# Altium schematic symbol library Schlib1.SchLib: 57 symbols (part 1 of 2)
Pins are listed as number, name and electrical type; pins without a type are passive.

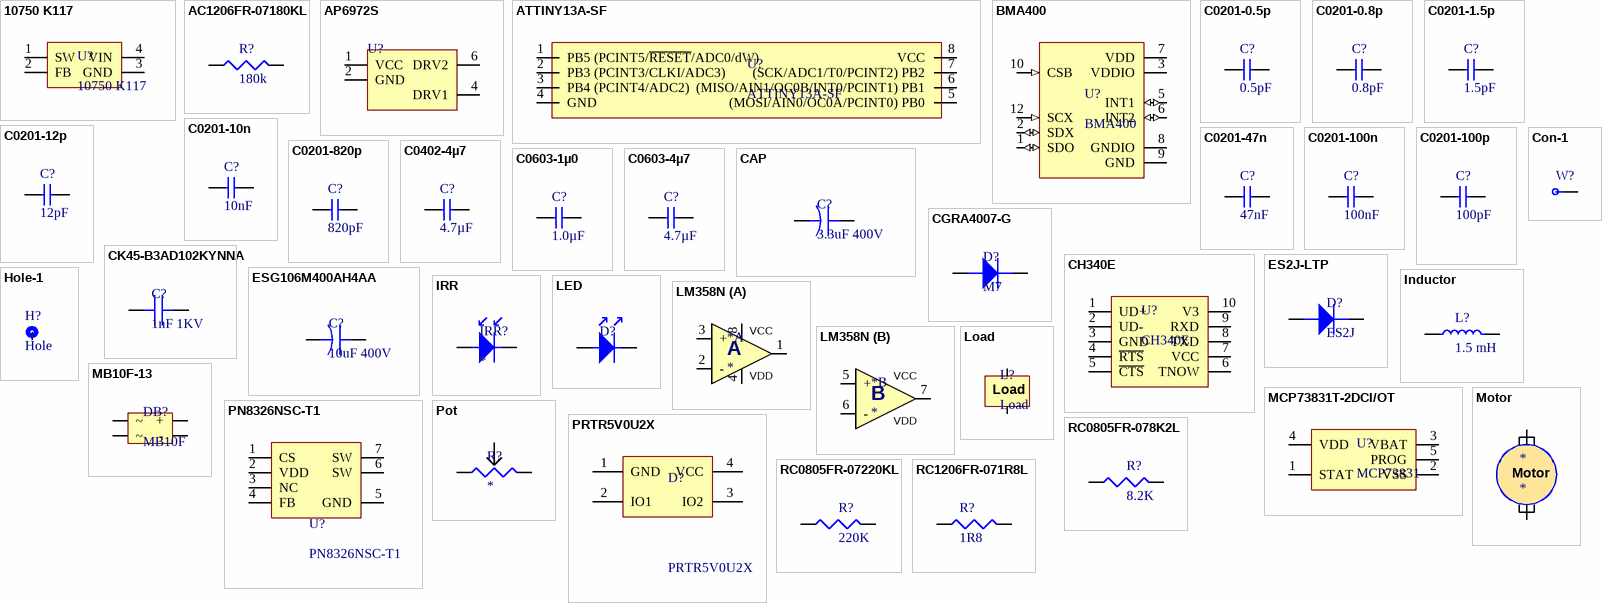
[diagram p0: symbols 10750 K117 to RC1206FR-071R8L]

## 10750 K117
designator U?
footprint 10750-K117
pins: 1 SW, 2 FB, 3 GND, 4 VIN

## AC1206FR-07180KL
designator R?, comment 180k
RES SMD 180K OHM 1% 1/4W 1206; Manufacturer: Yageo; Manufacturer Part Number: AC1206FR-07180KL; Resistance: 180kR; Max Power Dissipation: 250mW; Temperature Coefficient: 100ppm/°C; Supplier 1: Digi-Key; RoHS: Yes; Category: Chip SMD Resistors; Stock 1: 6923; Pricing 1: 1=0/10000, 10=0/08000, 100=0/03060, 1000=0/01348, 2500=0/01165 (USD); Case/Package: 1206; Case Code (Metric): 3016; Case Code (Imperial): 1206; Min Operating Temperature: -55°C; Max Operating Temperature: 155°C; Packaging: Tape and Reel; Resistor Type: Thick Film; Number of Terminations: 2; Tolerance: 1%; Features: Moisture Resistant,Automotive AEC-Q200; Length: 0.122inch; Width: 0.063inch; Height: 0.026inch; RoHS Compliant: Yes; ComponentLink1URL: http://www.yageo.com/NewPortal/yageodocoutput?fileName=/pdf/R-Chip/PYu-AC_51_RoHS_L_6.pdf&src-supplier=Digi-Key; ComponentLink1Description: http://www.yageo.com/NewPortal/yageodocoutput?fileName=/pdf/R-Chip/PYu-AC_51_RoHS_L_6.pdf&src-supplier=Digi-Key; Supplier Part Number 1: YAG3817CT-ND
footprint R-1206
pins: 1, 2

## AP6972S
designator U?
two-channel LED color temperature adjustment chip; Part Number: AP6972S; ComponentLink1Description: info; ComponentLink1URL: https://en.publicxin.com/product/56.html; ComponentLink2Description: Datasheet; ComponentLink2URL: https://en.publicxin.com/comp/file/download.do?id=39; Case/Package: SOT23-6
footprint SOT23-6_2 (AP6972S)
pins: 1 VCC, 2 GND, 4 DRV1, 6 DRV2

## ATTINY13A-SF
designator U?
MICROCONTROLLER MCU, 8 BIT, ATTINY, 20MHZ, SOIC-8; Controller Family/Series:ATtiny; CPU Speed:20MHz; Program Memory Size:1KB; RAM Memory Size:60Byte; No. of Pins:8; MCU Case Style:SOIC; No. of I/Os:6; Embedded Interface Type:- ;RoHS Compliant: Yes; Manufacturer: Microchip / Atmel; Number of I/Os: 6; Oscillator Type: Internal; Memory Type: FLASH; Memory Size: 1KB; Peripherals: Brown-out Detect/Reset,POR,PWM,WDT; Core Architecture: AVR; Interface: SPI; Number of Timers/Counters: 1; RAM Size: 64B; Max Supply Voltage: 5.5V; Min Supply Voltage: 1.8V; Data Bus Width: 8b; Number of ADC Channels: 4; Number of PWM Channels: 2; Operating Supply Voltage: 3.3V; Supplier 1: Digi-Key; Manufacturer Part Number: ATTINY13A-SF; RoHS: Yes; Category: Microcontrollers; Pricing 1: 1=0/91000, 25=0/84720, 100=0/75900 (USD); Mount: Surface Mount; Case/Package: SOIC; Number of Pins: 8; Contact Plating: Tin,Matte; Min Operating Temperature: -40°C; Max Operating Temperature: 125°C; Packaging: Rail/Tube; Frequency: 20MHz; Series: AVR® ATtiny; Package Quantity: 95; Number of Programmable I/O: 6; Max Frequency: 20MHz; Watchdog Timer: Yes; Length: 5.35mm; Width: 5.4mm; Height: 1.91mm; RoHS Compliant: Yes; ComponentLink1URL: https://datasheet.ciiva.com/3203/8126s-3203928.pdf?src-supplier=Avnet; ComponentLink1Description: https://datasheet.ciiva.com/3203/8126s-3203928.pdf?src-supplier=Avnet; ComponentLink2URL: https://datasheet.ciiva.com/1559/8126s-1559805.pdf?src-supplier=Digi-Key; ComponentLink2Description: https://datasheet.ciiva.com/1559/8126s-1559805.pdf?src-supplier=Digi-Key; Supplier Part Number 1: ATTINY13A-SF-ND
footprint SOIJ-8
pins: 1 PB5 (PCINT5/~{RESET}/ADC0/dW), 2 PB3 (PCINT3/CLKI/ADC3), 3 PB4 (PCINT4/ADC2), 4 GND, 5 (MOSI/AIN0/OC0A/PCINT0) PB0, 6 (MISO/AIN1/OC0B/INT0/PCINT1) PB1, 7 (SCK/ADC1/T0/PCINT2) PB2, 8 VCC

## BMA400
designator U?
ACCELEROMETER 2-16G 12LGA; Manufacturer: Bosch Sensortec; Axis: X, Y, Z; Supplier 1: Digi-Key; Manufacturer Part Number: BMA400; RoHS: No; Pricing 1: 1=3/98000, 5=3/70000, 10=3/07400, 25=2/56160, 50=2/27700, 100=2/16320 (USD); Mount: Surface Mount; Case/Package: LGA; Number of Pins: 12; Packaging: Tape and Reel; ComponentLink1URL: https://ae-bst.resource.bosch.com/media/_tech/media/datasheets/BST-BMA400-DS000.pdf?src-supplier=Digi-Key; ComponentLink1Description: https://ae-bst.resource.bosch.com/media/_tech/media/datasheets/BST-BMA400-DS000.pdf?src-supplier=Digi-Key; Supplier Part Number 1: 828-1081-1-ND
footprint XDCR_BMA400
pins: 1 SDO (io), 2 SDX (io), 3 VDDIO (power), 4 NC hidden, 5 INT1 (io), 6 INT2 (io), 7 VDD (power), 8 GNDIO (power), 9 GND (power), 10 CSB (in), 11 NC hidden, 12 SCX (in)

## C0201-0.5p
designator C?, comment 0.5pF
Capacitor, NP0, ±0.05pF; Part Number: C0201-0.5p; Note: 50V; Artikkelnr Noca: N.A.; Manufacturer: *; Manufacturer Part Number: *; LatestRevisionDate: 2018-10-22; Pin Count: 2; Publisher: Nordic Semiconductor; Published: 2014-11-13; Value: 0.5pF; Footprint Doc: 0201; Part number IPS: N.A.; ComponentLink1Description: Datasheet; ComponentLink1URL: *; ComponentLink2Description: Supplier link; ComponentLink2URL: *; HelpURL: *; Supplier 1: *; Supplier Part Number 1: *; Supplier 2: *; Supplier Part Number 2: *
footprint CAPC0603X03L_C
pins: 1, 2

## C0201-0.8p
designator C?, comment 0.8pF
Capacitor, NP0, ±0.05pF, 50V; Part Number: C0201-0.8p; Manufacturer: Murata; Manufacturer Part Number: GJM0335C1HR80WB01; Artikkelnr Noca: N.A.; LatestRevisionDate: 2018-10-22; Pin Count: 2; Publisher: Nordic Semiconductor; Published: 2014-11-13; Value: 0.8pF; Note: 50V; Footprint Doc: 0201; Part number IPS: N.A.; ComponentLink1Description: Datasheet; ComponentLink1URL: *; ComponentLink2Description: Supplier link; ComponentLink2URL: *; HelpURL: *; Supplier 1: *; Supplier Part Number 1: *; Supplier 2: *; Supplier Part Number 2: *
footprint CAPC0603X03L_C
pins: 1, 2

## C0201-1.5p
designator C?, comment 1.5pF
Capacitor, NP0, ±0.1pF; Part Number: C0201-1.5p; Part number IPS: 00000007107; Note: 50V; Artikkelnr Noca: N.A.; Manufacturer: *; Manufacturer Part Number: *; LatestRevisionDate: 2017-11-09; Pin Count: 2; Publisher: Nordic Semiconductor; Published: 2014-11-13; Value: 1.5pF; Footprint Doc: 0201; ComponentLink1Description: Datasheet; ComponentLink1URL: *; ComponentLink2Description: Supplier link; ComponentLink2URL: *; HelpURL: *; Supplier 1: *; Supplier Part Number 1: *; Supplier 2: *; Supplier Part Number 2: *
footprint CAPC0603X03L_C
pins: 1, 2

## C0201-10n
designator C?, comment 10nF
Capacitor, X7R, ±10%; Part Number: C0201-10n; Part number IPS: 00000003480; Note: 10V; Artikkelnr Noca: N.A.; Manufacturer: *; Manufacturer Part Number: *; LatestRevisionDate: 2017-11-09; Pin Count: 2; Publisher: Nordic Semiconductor; Published: 2014-11-13; Value: 10nF; Footprint Doc: 0201; ComponentLink1Description: Datasheet; ComponentLink1URL: *; ComponentLink2Description: Supplier link; ComponentLink2URL: *; HelpURL: *; Supplier 1: *; Supplier Part Number 1: *; Supplier 2: *; Supplier Part Number 2: *
footprint CAPC0603X03L_C
pins: 1, 2

## C0201-12p
designator C?, comment 12pF
Capacitor, NP0, ±2%; Part Number: C0201-12p; Part number IPS: 00000007848; Note: 25V; Artikkelnr Noca: N.A.; Manufacturer: *; Manufacturer Part Number: *; LatestRevisionDate: 2017-11-09; Pin Count: 2; Publisher: Nordic Semiconductor; Published: 2014-11-13; Value: 12pF; Footprint Doc: 0201; ComponentLink1Description: Datasheet; ComponentLink1URL: *; ComponentLink2Description: Supplier link; ComponentLink2URL: *; HelpURL: *; Supplier 1: *; Supplier Part Number 1: *; Supplier 2: *; Supplier Part Number 2: *
footprint CAPC0603X03L_C
pins: 1, 2

## C0201-47n
designator C?, comment 47nF
Capacitor, X5R, ±10%; Part Number: C0201-47n; Part number IPS: 00000001250; Note: 10V; Artikkelnr Noca: N.A.; LatestRevisionDate: 2017-11-09; Pin Count: 2; Publisher: Nordic Semiconductor; Published: 2014-11-13; Value: 47nF; Footprint Doc: 0201; Manufacturer: *; Manufacturer Part Number: *; ComponentLink1Description: Datasheet; ComponentLink1URL: *; ComponentLink2Description: Supplier link; ComponentLink2URL: *; HelpURL: *; Supplier 1: *; Supplier Part Number 1: *; Supplier 2: *; Supplier Part Number 2: *
footprint CAPC0603X03L_C
pins: 1, 2

## C0201-100n
designator C?, comment 100nF
Capacitor, X5R, ±10%; Part Number: C0201-100n; Part number IPS: 00000001248; Note: 16V; Artikkelnr Noca: N.A.; Manufacturer: *; Manufacturer Part Number: *; LatestRevisionDate: 2017-11-09; Pin Count: 2; Publisher: Nordic Semiconductor; Published: 2014-11-13; Value: 100nF; Footprint Doc: 0201; ComponentLink1Description: Datasheet; ComponentLink1URL: *; ComponentLink2Description: Supplier link; ComponentLink2URL: *; HelpURL: *; Supplier 1: *; Supplier Part Number 1: *; Supplier 2: *; Supplier Part Number 2: *
footprint CAPC0603X03L_C
pins: 1, 2

## C0201-100p
designator C?, comment 100pF
Capacitor, NP0, ±2%, 25V; Part Number: C0201-100p; Manufacturer: Murata; Manufacturer Part Number: GRM0335C1E101GA01; Part number IPS: 00000007853; Artikkelnr Noca: N.A.; LatestRevisionDate: 2019-04-16; Pin Count: 2; Publisher: Nordic Semiconductor; Published: 2019-04-16; Value: 100pF; Note: 25V; Footprint Doc: 0201; ComponentLink1Description: Datasheet; ComponentLink1URL: *; ComponentLink2Description: Supplier link; ComponentLink2URL: *; HelpURL: *; Supplier 1: *; Supplier Part Number 1: *; Supplier 2: *; Supplier Part Number 2: *
footprint CAPC0603X03L_C
pins: 1, 2

## C0201-820p
designator C?, comment 820pF
Capacitor, X7R, ±10%; Part Number: C0201-820p; Part number IPS: 00000001249; Note: 25V; Artikkelnr Noca: N.A.; Manufacturer: *; Manufacturer Part Number: *; LatestRevisionDate: 2017-11-09; Pin Count: 2; Publisher: Nordic Semiconductor; Published: 2014-11-13; Value: 820pF; Footprint Doc: 0201; ComponentLink1Description: Datasheet; ComponentLink1URL: *; ComponentLink2Description: Supplier link; ComponentLink2URL: *; HelpURL: *; Supplier 1: *; Supplier Part Number 1: *; Supplier 2: *; Supplier Part Number 2: *
footprint CAPC0603X03L_C
pins: 1, 2

## C0402-4µ7
designator C?, comment 4.7µF
Capacitor, X5R, ±20%; Part Number: C0402-4µ7; Part number IPS: 00000001251; Note: 10V; Artikkelnr Noca: 20039482; Manufacturer: *; Manufacturer Part Number: *; LatestRevisionDate: 2017-11-09; Pin Count: 2; Publisher: Nordic Semiconductor; Published: 2009-05-08; Value: 4.7µF; Footprint Doc: 0402; ComponentLink1Description: Datasheet; ComponentLink1URL: *; ComponentLink2Description: Supplier link; ComponentLink2URL: *; HelpURL: *; Supplier 1: Digi-Key; Supplier Part Number 1: 490-13252-1-ND; Supplier 2: *; Supplier Part Number 2: *
footprint CAPC1005X04L
pins: 1, 2

## C0603-1µ0
designator C?, comment 1.0µF
Capacitor, X7R, ±10%; Part Number: C0603-1µ0; Part number IPS: 00000000616; Note: 16V; Artikkelnr Noca: 20039282; Manufacturer: *; Manufacturer Part Number: *; LatestRevisionDate: 2013-06-05; Pin Count: 2; Publisher: Nordic Semiconductor; Published: 2009-05-08; Value: 1.0µF; Footprint Doc: 0603; ComponentLink1Description: Datasheet; ComponentLink1URL: *; ComponentLink2Description: Supplier link; ComponentLink2URL: *; HelpURL: *; Supplier 1: *; Supplier Part Number 1: *; Supplier 2: *; Supplier Part Number 2: *
footprint CAPC1608X06L
pins: 1, 2

## C0603-4µ7
designator C?, comment 4.7µF
Capacitor, X5R, ±10%; Part Number: C0603-4µ7; Part number IPS: 00000007783; Note: 6.3V; Artikkelnr Noca: 20069060; Manufacturer: *; Manufacturer Part Number: *; LatestRevisionDate: 2009-11-23; Pin Count: 2; Publisher: Nordic Semiconductor; Published: 2009-05-08; Value: 4.7µF; Footprint Doc: 0603; ComponentLink1Description: Datasheet; ComponentLink1URL: *; ComponentLink2Description: Supplier link; ComponentLink2URL: *; HelpURL: *; Supplier 1: *; Supplier Part Number 1: *; Supplier 2: *; Supplier Part Number 2: *
footprint CAPC1608X06L
pins: 1, 2

## CAP
designator C?, comment 3.3uF 400V
-40+105'C LE-20
footprint CAP-Sleep_12x6
footprint CAP-SLEEP_10X6
pins: A, K

## CGRA4007-G
designator D?, comment M7
DIODE GEN PURP 1KV 1A DO214AC; Manufacturer: Comchip; Manufacturer Part Number: CGRA4007-G; Max Reverse Current: 5uA; Polarity: Standard; Max Surge Current: 30A; Supplier 1: Digi-Key; RoHS: Yes; Category: Rectifier Diodes; Stock 1: 357790; Pricing 1: 1=0/28000, 10=0/22800, 100=0/12080, 500=0/07950, 1000=0/05406, 2000=0/04876 (USD); Mount: Surface Mount; Reverse Voltage: 1kV; Max Reverse Voltage (DC): 1kV; Average Rectified Current: 1A; Forward Current: 1A; Voltage Rating (DC): 1kV; Current Rating: 1A; Output Current: 1A; Package Quantity: 5000; Packaging: Tape and Reel; Lead Free: Lead Free; ComponentLink1URL: https://datasheet.ciiva.com/911/cgra4001-gthru-cgra4007-hfrevd-911849.pdf?src-supplier=Digi-Key; ComponentLink1Description: https://datasheet.ciiva.com/911/cgra4001-gthru-cgra4007-hfrevd-911849.pdf?src-supplier=Digi-Key; ComponentLink2URL: https://datasheet.ciiva.com/911/cgra4001-gthru-cgra4007-hfrevd-911851.pdf?src-supplier=Digi-Key; ComponentLink2Description: https://datasheet.ciiva.com/911/cgra4001-gthru-cgra4007-hfrevd-911851.pdf?src-supplier=Digi-Key; ComponentLink3URL: https://datasheet.ciiva.com/911/cgra4001-gthru-cgra4007-hfrevd-911850.pdf?src-supplier=Digi-Key; ComponentLink3Description: https://datasheet.ciiva.com/911/cgra4001-gthru-cgra4007-hfrevd-911850.pdf?src-supplier=Digi-Key; Supplier Part Number 1: 641-1018-1-ND
footprint Diode-M
pins: A, K

## CH340E
designator U?
USB to Serial; Case/Package: MSOP-10
footprint MSOP-10
pins: 1 UD+, 2 UD-, 3 GND, 4 ~{RTS}, 5 ~{CTS}, 6 TNOW, 7 VCC, 8 TXD, 9 RXD, 10 V3

## CK45-B3AD102KYNNA
designator C?, comment 1nF 1KV
Cap Ceramic 0.001uF 1000V B 10%( 6 X 5mm) Radial 5mm 105C Bulk; Manufacturer: TDK; Manufacturer Part Number: CK45-B3AD102KYNNA; Lead/Base Style: Straight; Supplier 1: Digi-Key; RoHS: Yes; Category: Ceramic Capacitors; Stock 1: 2526; Pricing 1: 1=0/35000, 10=0/24100, 50=0/16900, 100=0/14490, 500=0/10866, 1000=0/09175, 2500=0/08692, 5000=0/08209 (USD); Mount: Through Hole; Case/Package: Radial; Contact Plating: Tin; Min Operating Temperature: -25°C; Max Operating Temperature: 105°C; Package Quantity: 1000; Packaging: Bulk; Capacitance: 1nF; Tolerance: 10%; Voltage Rating: 1kV; Height - Seated (Max): 0.394inch; Lead Pitch: 0.197inch; Lead Free: Lead Free; RoHS Compliant: Yes; ComponentLink1URL: https://datasheet.ciiva.com/29540/leaddisc-commercial-ck45-en-29540152.pdf?src-supplier=Digi-Key; ComponentLink1Description: https://datasheet.ciiva.com/29540/leaddisc-commercial-ck45-en-29540152.pdf?src-supplier=Digi-Key; Supplier Part Number 1: 445-175508-ND
footprint CAP-1nF-1KV
pins: 1, 2

## Con-1
designator W?, comment Wire  (value not drawn)  (no BOM)
footprint Con-1_Dip
footprint Con-1_SMD
pins: 1

## ES2J-LTP
designator D?, comment ES2J
2A SUPER FAST RECOVERY SILICON RECTIFIER / 13 REEL ;ROHS COMPLIANT: YES; Manufacturer: MCC; Manufacturer Part Number: ES2J-LTP; Reverse Voltage (DC): 600V; Reverse Recovery Time: 35ns; Element Configuration: Single; Forward Voltage: 1.7V; Max Surge Current: 50A; Max Reverse Current: 5uA; Supplier 1: Digi-Key; RoHS: Yes; Category: Rectifier Diodes; Stock 1: 19560; Pricing 1: 1=0/45000, 10=0/33600, 100=0/20900, 500=0/14300, 1000=0/11000, 2000=0/09900 (USD); Mount: Surface Mount; Case/Package: DO-214AC; Number of Pins: 2; Weight: 0.003739oz; Min Operating Temperature: -65°C; Max Operating Temperature: 175°C; Package Quantity: 1; Packaging: Tape and Reel; Average Rectified Current: 2A; Forward Current: 2A; Recovery Time: 35ns; Max Reverse Voltage (DC): 600V; Series: -; ComponentLink1URL: https://datasheet.ciiva.com/6378/es2a-les2j-ldo-214ac-6378187.pdf?src-supplier=Digi-Key; ComponentLink1Description: https://datasheet.ciiva.com/6378/es2a-les2j-ldo-214ac-6378187.pdf?src-supplier=Digi-Key; ComponentLink2URL: https://datasheet.ciiva.com/18567/es2a-les2j-ldo-214ac-18567452.pdf?src-supplier=Digi-Key; ComponentLink2Description: https://datasheet.ciiva.com/18567/es2a-les2j-ldo-214ac-18567452.pdf?src-supplier=Digi-Key; Supplier Part Number 1: 353-ES2J-LTPCT-ND
footprint Diode-M
pins: A, K

## ESG106M400AH4AA
designator C?, comment 10uF 400V
CAP ALUM 10UF 20% 400V RADIAL; Manufacturer: KEMET; Manufacturer Part Number: ESG106M400AH4AA; Ripple Current: 100mA; Impedance: 2.9R; Life (Hours): 5000Hour; Supplier 1: Digi-Key; RoHS: Yes; Category: Aluminum Electrolytic Capacitors; Stock 1: 2246; Pricing 1: 1=0/82000, 10=0/60100, 50=0/48080, 100=0/41210, 500=0/32622, 1000=0/27471, 2500=0/25754, 5000=0/24037 (USD); Mount: Through Hole; Case/Package: Radial; Min Operating Temperature: -40°C; Max Operating Temperature: 105°C; Capacitance: 10uF; Tolerance: 20%; Termination: Radial; Package Quantity: 2400; Voltage Rating: 400V; Packaging: Bulk; Series: ESG; Diameter: 10mm; Height: 19mm; Lead Pitch: 0.197inch; Height - Seated (Max): 0.827inch; Radiation Hardening: No; RoHS Compliant: Yes; ComponentLink1URL: http://capacitoredge.kemet.com/capedge2/DataSheet?pn=ESG106M400AH4AA&src-supplier=Avnet; ComponentLink1Description: http://capacitoredge.kemet.com/capedge2/DataSheet?pn=ESG106M400AH4AA&src-supplier=Avnet; ComponentLink2URL: https://search.kemet.com/component-edge/download/datasheet/ESG106M400AH4AA.pdf?src-supplier=Digi-Key; ComponentLink2Description: https://search.kemet.com/component-edge/download/datasheet/ESG106M400AH4AA.pdf?src-supplier=Digi-Key; ComponentLink3URL: http://capacitoredge.kemet.com/capedge2/DataSheet?pn=ESG106M400AH4AA&src-supplier=Avnet+Europe; ComponentLink3Description: http://capacitoredge.kemet.com/capedge2/DataSheet?pn=ESG106M400AH4AA&src-supplier=Avnet+Europe; Supplier Part Number 1: 399-6538-ND
footprint CAP-10x20
pins: 1, 2

## Hole-1
designator H?, comment Hole  (net tie, no BOM)
footprint Hole-1
pins: 0

## Inductor
designator L?, comment 1.5 mH
ZH 152
footprint SMD-IND-ZH152
pins: 1, 2

## IRR
designator IRR?
footprint LED5MM (LED THD 5MM)
pins: A, K

## LED
designator D?  (value not drawn)
footprint LED-2835
footprint LED5MM (LED THD 5MM)
pins: A, K

## LM358N
designator *
IC OPAMP GP 1.1MHZ 8DIP; Manufacturer: STMicroelectronics; Manufacturer Part Number: LM358N; Operating Supply Voltage: 15V; Voltage Gain: 100dB; Slew Rate: 0.6V/µs; Max Supply Voltage: 30V; Min Supply Voltage: 3V; Common Mode Rejection Ratio: 70dB; Min Dual Supply Voltage: 1.5V; Nominal Supply Current: 1.2mA; Number of Channels: 2; Output Current: 40mA; Dual Supply Voltage: 9V; Max Input Voltage: 28.5V; Min Input Voltage: 0V; Input Bias Current: 150nA; Input Offset Voltage (Vos): 7mV; Operating Supply Current: 700uA; Output Current per Channel: 60mA; Amplifier Type: GENERAL PURPOSE; Supplier 1: Digi-Key; RoHS: Yes; Category: Amplifiers - Op Amps, Buffer, Instrumentation; Mount: Through Hole; Case/Package: DIP; Number of Pins: 8; Weight: 0.01lb; Min Operating Temperature: 0°C; Max Operating Temperature: 70°C; Package Quantity: 50; Packaging: Rail/Tube; Bandwidth: 1.1MHz; Unity Gain Bandwidth Product: 1.1MHz; Max Dual Supply Voltage: 15V; Number of Circuits: 2; Gain Bandwidth Product: 1.1MHz; Number of Elements: 2; Number of Amplifiers: 2; Series: -; Supply Current: 1.2mA; Technology: BIPOLAR; Input Offset Voltage-Max: 7mV; Slew Rate-Nom: 0.6V/µs; Length: 9.27mm; Width: 6.35mm; Height: 3.3mm; Radiation Hardening: No; REACH SVHC: No SVHC; Lead Free: Lead Free; RoHS Compliant: Yes; ComponentLink1URL: https://datasheet.ciiva.com/15130/getdatasheetpartid-85226-15130372.pdf?src-supplier=Verical; ComponentLink1Description: https://datasheet.ciiva.com/15130/getdatasheetpartid-85226-15130372.pdf?src-supplier=Verical; ComponentLink2URL: https://datasheet.ciiva.com/29306/155600-da-01-en-op-verst-lm358n-stm-29306824.pdf?src-supplier=Conrad; ComponentLink2Description: https://datasheet.ciiva.com/29306/155600-da-01-en-op-verst-lm358n-stm-29306824.pdf?src-supplier=Conrad; ComponentLink3URL: https://datasheet.ciiva.com/29305/174440-da-01-en-ic-lm-358-n-dip8-stm-29305885.pdf?src-supplier=Conrad; ComponentLink3Description: https://datasheet.ciiva.com/29305/174440-da-01-en-ic-lm-358-n-dip8-stm-29305885.pdf?src-supplier=Conrad; ComponentLink4URL: https://datasheet.ciiva.com/14151/jhlm258-e-14151239.pdf?src-supplier=Distrelec; ComponentLink4Description: https://datasheet.ciiva.com/14151/jhlm258-e-14151239.pdf?src-supplier=Distrelec; ComponentLink5URL: https://datasheet.ciiva.com/1796/cd00000464-1796450.pdf?src-supplier=Digi-Key; ComponentLink5Description: https://datasheet.ciiva.com/1796/cd00000464-1796450.pdf?src-supplier=Digi-Key; ComponentLink6URL: https://datasheet.ciiva.com/18404/70013564-18404010.pdf?src-supplier=Allied+Electronics; ComponentLink6Description: https://datasheet.ciiva.com/18404/70013564-18404010.pdf?src-supplier=Allied+Electronics; ComponentLink7URL: https://datasheet.ciiva.com/16351/cd00000464-16351087.pdf?src-supplier=Future+Electronics; ComponentLink7Description: https://datasheet.ciiva.com/16351/cd00000464-16351087.pdf?src-supplier=Future+Electronics; Supplier Part Number 1: 497-1592-5-ND
footprint DIP_8 (DIP, pitch 2.54mm, 300mil Width)
part A pins: 1 O1, 2 -, 3 +, 4 VDD, 8 VCC
part B pins: 5 +, 6 -, 7 O2
part A text: A
part B text: B

## Load
designator L?
footprint PWL_2 (Connector; Header; 2 Position)
pins: 1, 2

## MB10F-13
designator DB?, comment MB10F
BRIDGE RECT 1PHASE 1KV 800MA MBF; Manufacturer: Diodes; Manufacturer Part Number: MB10F-13; Supplier 1: Digi-Key; RoHS: Yes; Category: Diodes; Stock 1: 17990; Pricing 1: 1=0/43000, 10=0/35200, 100=0/23940, 500=0/17952, 1000=0/13464, 2000=0/12342 (USD); Mount: Surface Mount; Case/Package: SMD/SMT; Min Operating Temperature: -55°C; Max Operating Temperature: 150°C; Packaging: Tape and Reel; Average Rectified Current: 800mA; RoHS Compliant: Yes; ComponentLink1URL: https://www.diodes.com/assets/Datasheets/MB10F.pdf?src-supplier=Digi-Key; ComponentLink1Description: https://www.diodes.com/assets/Datasheets/MB10F.pdf?src-supplier=Digi-Key; Supplier Part Number 1: MB10F-13DICT-ND
footprint MB10F
pins: 1 +, 2 ~, 3 -, 4 ~

## MCP73831T-2DCI/OT
designator U?, comment MCP73831
MICROCHIP - MCP73831T-2DCI/OT - IC zum Laden von 1-zelligen Li-Ionen- & Li-Polymer-Akkus, 6V Eingang, 4.2V/500mA, SOT-23-5; Output Voltage: 4.2V; Output Current: 500mA; Number of Cells: 1; Min Supply Voltage: 3.75V; Operating Supply Current: 510uA; Max Output Voltage: 4.232V; Min Output Voltage: 4.168V; Supplier 1: Digi-Key; Manufacturer: Microchip; Manufacturer Part Number: MCP73831T-2DCI/OT; RoHS: Yes; Category: Battery Management; Stock 1: 3700; Pricing 1: 1=0/59000, 25=0/49400 (USD); Mount: Surface Mount; Case/Package: SOT-23; Number of Pins: 5; Contact Plating: Tin,Matte; Min Operating Temperature: -40°C; Max Operating Temperature: 85°C; Max Output Current: 500mA; Max Supply Voltage: 6V; Packaging: Tape and Reel; Package Quantity: 3000; Max Input Voltage: 3.75V; Number of Channels: 1; Max Charge Current: 500mA; Series: MCP73831; Length: 3.1mm; Width: 1.8mm; Height: 1.3mm; Radiation Hardening: No; REACH SVHC: No SVHC; Lead Free: Lead Free; RoHS Compliant: Yes; ComponentLink1URL: https://datasheet.ciiva.com/1496/1784520-1496880.pdf?src-supplier=Farnell; ComponentLink1Description: https://datasheet.ciiva.com/1496/1784520-1496880.pdf?src-supplier=Farnell; ComponentLink2URL: https://datasheet.ciiva.com/3213/21984e-3213406.pdf?src-supplier=Avnet; ComponentLink2Description: https://datasheet.ciiva.com/3213/21984e-3213406.pdf?src-supplier=Avnet; ComponentLink3URL: https://datasheet.ciiva.com/1931/21984e-1931965.pdf?src-supplier=Digi-Key; ComponentLink3Description: https://datasheet.ciiva.com/1931/21984e-1931965.pdf?src-supplier=Digi-Key; ComponentLink4URL: https://datasheet.ciiva.com/1931/21984e-1931966.pdf?src-supplier=Digi-Key; ComponentLink4Description: https://datasheet.ciiva.com/1931/21984e-1931966.pdf?src-supplier=Digi-Key; ComponentLink5URL: https://datasheet.ciiva.com/1931/21984e-1931967.pdf?src-supplier=Digi-Key; ComponentLink5Description: https://datasheet.ciiva.com/1931/21984e-1931967.pdf?src-supplier=Digi-Key; ComponentLink6URL: https://datasheet.ciiva.com/12230/21984e-53484-12230924.pdf?src-supplier=Mouser; ComponentLink6Description: https://datasheet.ciiva.com/12230/21984e-53484-12230924.pdf?src-supplier=Mouser; ComponentLink7URL: https://datasheet.ciiva.com/17299/21984e-17299308.pdf?src-supplier=Avnet+Europe; ComponentLink7Description: https://datasheet.ciiva.com/17299/21984e-17299308.pdf?src-supplier=Avnet+Europe; ComponentLink8URL: https://datasheet.ciiva.com/1137/1784520-1137805.pdf?src-supplier=Element14; ComponentLink8Description: https://datasheet.ciiva.com/1137/1784520-1137805.pdf?src-supplier=Element14; ComponentLink9URL: https://datasheet.ciiva.com/15115/getdatasheetpartid-571429-15115381.pdf?src-supplier=Verical; ComponentLink9Description: https://datasheet.ciiva.com/15115/getdatasheetpartid-571429-15115381.pdf?src-supplier=Verical; ComponentLink10URL: https://datasheet.ciiva.com/16217/filehandler-aspxddocname-en025112-16217054.pdf?src-supplier=Future+Electronics; ComponentLink10Description: https://datasheet.ciiva.com/16217/filehandler-aspxddocname-en025112-16217054.pdf?src-supplier=Future+Electronics; ComponentLink11URL: https://datasheet.ciiva.com/1490/1784520-1490198.pdf?src-supplier=Element14; ComponentLink11Description: https://datasheet.ciiva.com/1490/1784520-1490198.pdf?src-supplier=Element14; Supplier Part Number 1: MCP73831T-2DCI/OTCT-ND
footprint SOT-23-5
pins: 1 STAT, 2 VSS, 3 VBAT, 4 VDD, 5 PROG

## Motor
designator *
footprint PWL_2 (Connector; Header; 2 Position)
pins: 1, 2

## PN8326NSC-T1
designator U?
footprint PN8326NSC-T1
pins: 1 CS, 2 VDD, 3 NC, 4 FB, 5 GND, 6 SW, 7 SW

## Pot
designator R?
footprint POT_7X5 (POT, TRIM, 7.5X5.0mm, pitch: 5.0mm)
pins: 1, 2, 3

## PRTR5V0U2X
designator D?
Ultra low capacitance double rail-to-rail ESD protection diode; Manufacturer: NXP; Part number IPS: 00000009951; Artikkelnr Noca: 10069015; Part Number: PRTR5V0U2X; Manufacturer Part Number: PRTR5V0U2X; LatestRevisionDate: 2017-11-09; Publisher: Nordic Semiconductor; Published: 2012-06-11; Value: PRTR5V0U2X; Note: *; Footprint Doc: SOT-143B; ComponentLink1Description: Datasheet; ComponentLink1URL: *; ComponentLink2Description: Supplier link; ComponentLink2URL: *; HelpURL: http://www.farnell.com/datasheets/109718.pdf; Pin Count: 4; Supplier 1: Digi-Key; Supplier Part Number 1: 568-4140-1-ND; Supplier 2: Farnell; Supplier Part Number 2: 152-4157
footprint SOT190P230X110-4L
pins: 1 GND, 2 IO1, 3 IO2, 4 VCC

## RC0805FR-078K2L
designator R?, comment 8.2K
YAGEO - RC0805FR-078K2L - SMD Chip Resistor, 0805 [2012 Metric], 8.2 kohm, RC Series, 150 V, Thick Film, 125 mW; Tolerance: 1%; Power Rating: 125mW; Resistance: 8.2kR; Voltage Rating: 150V; Temperature Coefficient: 100ppm/°C; Supplier 1: Digi-Key; Manufacturer: Yageo; Manufacturer Part Number: RC0805FR-078K2L; RoHS: Yes; Category: Chip SMD Resistors; Stock 1: 764393; Pricing 1: 1=0/10000, 10=0/04200, 100=0/01690, 1000=0/00759, 2500=0/00659 (USD); Case/Package: 0805; Case Code (Metric): 2012; Case Code (Imperial): 0805; Size Code: 0805; Min Operating Temperature: -55°C; Max Operating Temperature: 155°C; Packaging: Tape and Reel; Resistor Type: Thick Film; Number of Terminations: 2; Termination: SMD/SMT; Max Power Dissipation: 125mW; Features: Moisture Resistant; Series: RC; Technology: THICK FILM; Resistance Tolerance: 1%; Package Quantity: 1; Length: 2mm; Width: 0.049inch; Height: 0.5mm; Depth: 1.25mm; REACH SVHC: Unknown; Lead Free: Lead Free; RoHS Compliant: Yes; ComponentLink1URL: https://datasheet.ciiva.com/11808/0900766b8106beab-11808608.pdf?src-supplier=RSComponents; ComponentLink1Description: https://datasheet.ciiva.com/11808/0900766b8106beab-11808608.pdf?src-supplier=RSComponents; ComponentLink2URL: https://datasheet.ciiva.com/2457/pyu-r-int-thick-7-2457428.pdf?src-supplier=Digi-Key; ComponentLink2Description: https://datasheet.ciiva.com/2457/pyu-r-int-thick-7-2457428.pdf?src-supplier=Digi-Key; ComponentLink3URL: https://datasheet.ciiva.com/2457/pyu-r-int-thick-7-2457429.pdf?src-supplier=Digi-Key; ComponentLink3Description: https://datasheet.ciiva.com/2457/pyu-r-int-thick-7-2457429.pdf?src-supplier=Digi-Key; ComponentLink4URL: https://datasheet.ciiva.com/2457/pyu-r-int-thick-7-2457430.pdf?src-supplier=Digi-Key; ComponentLink4Description: https://datasheet.ciiva.com/2457/pyu-r-int-thick-7-2457430.pdf?src-supplier=Digi-Key; ComponentLink5URL: https://datasheet.ciiva.com/17195/rc0805-17195302.pdf?src-supplier=Future+Electronics; ComponentLink5Description: https://datasheet.ciiva.com/17195/rc0805-17195302.pdf?src-supplier=Future+Electronics; ComponentLink6URL: https://datasheet.ciiva.com/7941/444164-7941847.pdf?src-supplier=Element14; ComponentLink6Description: https://datasheet.ciiva.com/7941/444164-7941847.pdf?src-supplier=Element14; ComponentLink7URL: https://datasheet.ciiva.com/7941/444164-7941848.pdf?src-supplier=Element14; ComponentLink7Description: https://datasheet.ciiva.com/7941/444164-7941848.pdf?src-supplier=Element14; Supplier Part Number 1: 311-8.20KCRCT-ND
footprint R-0805
pins: 1, 2

## RC0805FR-07220KL
designator R?, comment 220K
Thick Film Resistors - SMD 0805 220K OHM 1%; Manufacturer: Yageo; Manufacturer Part Number: RC0805FR-07220KL; Resistance: 220kR; Power Rating: 125mW; Temperature Coefficient: 100ppm/°C; Voltage Rating: 150V; Supplier 1: Digi-Key; RoHS: Yes; Category: Chip SMD Resistors; Stock 1: 82294; Pricing 1: 1=0/10000, 10=0/04200, 100=0/01690, 1000=0/00759, 2500=0/00659 (USD); Case/Package: 0805; Number of Pins: 2; Case Code (Metric): 2012; Case Code (Imperial): 0805; Size Code: 0805; Min Operating Temperature: -55°C; Max Operating Temperature: 155°C; Tolerance: 1%; Packaging: Tape and Reel; Voltage Rating (DC): 150V; Package Quantity: 1; Resistor Type: Thick Film; Number of Terminations: 2; Termination: SMD/SMT; Max Power Dissipation: 125mW; Features: Moisture Resistant; Series: RC; Resistance Tolerance: 1%; Technology: THICK FILM; Length: 2mm; Width: 1.25mm; Height: 0.5mm; Depth: 1.25mm; REACH SVHC: Unknown; Lead Free: Lead Free; RoHS Compliant: Yes; Supplier Part Number 1: 311-220KCRCT-ND
footprint R-0805
pins: 1, 2

## RC1206FR-071R8L
designator R?, comment 1R8
YAGEO - RC1206FR-071R8L - SMD Chip Resistor, 1206 [3216 Metric], 1.8 ohm, RC Series, 200 V, Thick Film, 250 mW; Tolerance: 1%; Power Rating: 250mW; Resistance: 1.8R; Voltage Rating: 200V; Temperature Coefficient: 200ppm/°C; Supplier 1: Digi-Key; Manufacturer: Yageo; Manufacturer Part Number: RC1206FR-071R8L; RoHS: Yes; Category: Chip SMD Resistors; Stock 1: 644473; Pricing 1: 1=0/15000, 10=0/13200, 100=0/05090, 1000=0/02242, 2500=0/01936 (USD); Case/Package: 1206; Case Code (Imperial): 1206; Case Code (Metric): 3216; Size Code: 1206; Weight: 0.000571oz; Min Operating Temperature: -55°C; Max Operating Temperature: 155°C; Packaging: Tape and Reel; Termination: SMD/SMT; Resistor Type: Thick Film; Features: Moisture Resistant; Series: RC1206; Max Power Dissipation: 250mW; Number of Terminations: 2; Technology: THICK FILM; Resistance Tolerance: 1%; Construction: Rectangular; Length: 3.1mm; Width: 1.6mm; Height: 0.55mm; Depth: 1.6mm; REACH SVHC: Unknown; Lead Free: Lead Free; RoHS Compliant: Yes; Military Standard: Not; ComponentLink1URL: https://datasheet.ciiva.com/11819/0900766b80c6630a-11819907.pdf?src-supplier=RSComponents; ComponentLink1Description: https://datasheet.ciiva.com/11819/0900766b80c6630a-11819907.pdf?src-supplier=RSComponents; ComponentLink2URL: https://datasheet.ciiva.com/7857/444357-7857294.pdf?src-supplier=Element14; ComponentLink2Description: https://datasheet.ciiva.com/7857/444357-7857294.pdf?src-supplier=Element14; ComponentLink3URL: https://datasheet.ciiva.com/7857/444357-7857295.pdf?src-supplier=Element14; ComponentLink3Description: https://datasheet.ciiva.com/7857/444357-7857295.pdf?src-supplier=Element14; Supplier Part Number 1: 311-1.80FRCT-ND
footprint R-1206
pins: 1, 2

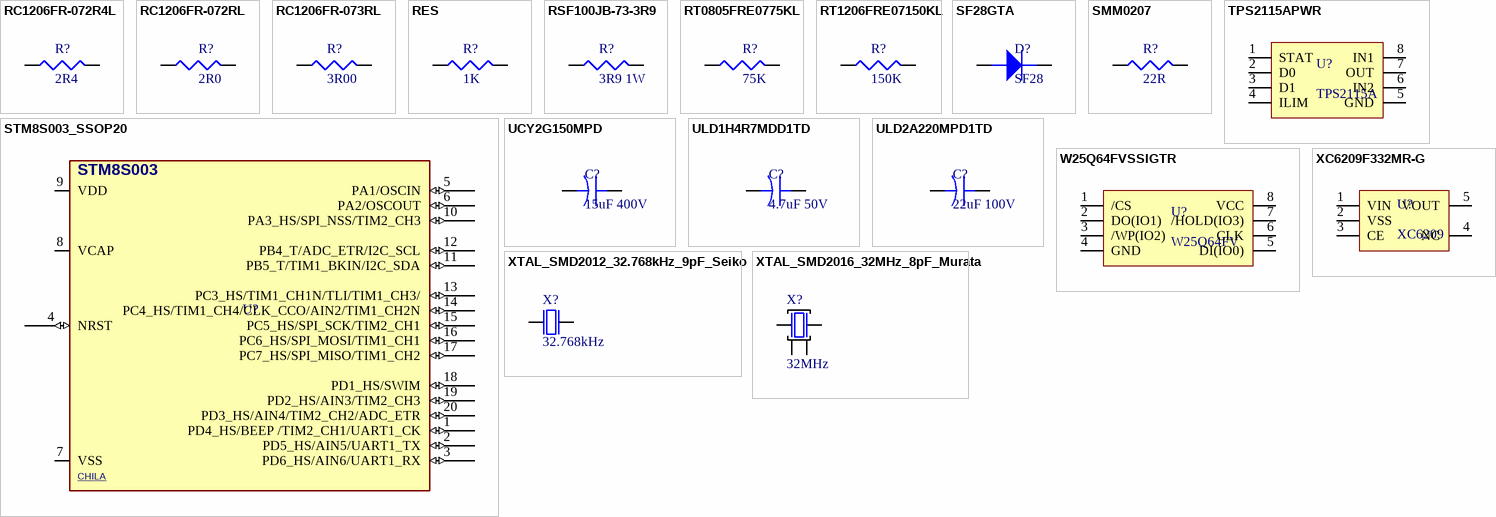
[diagram p1: symbols RC1206FR-072R4L to XTAL_SMD2016_32MHz_8pF_Murata]

## RC1206FR-072R4L
designator R?, comment 2R4
RES SMD 2.4 OHM 1% 1/4W 1206; Manufacturer: Yageo; Manufacturer Part Number: RC1206FR-072R4L; Resistance: 2.4R; Power Rating: 250mW; Voltage Rating: 200V; Temperature Coefficient: 200ppm/°C; Supplier 1: Digi-Key; RoHS: Yes; Category: Chip SMD Resistors; Stock 1: 11542; Pricing 1: 1=0/15000, 10=0/13200, 100=0/05090, 1000=0/02242, 2500=0/01936 (USD); Case/Package: 1206; Case Code (Imperial): 1206; Case Code (Metric): 3216; Size Code: 1206; Min Operating Temperature: -55°C; Max Operating Temperature: 155°C; Tolerance: 1%; Packaging: Tape and Reel; Package Quantity: 1; Termination: SMD/SMT; Resistor Type: Thick Film; Number of Terminations: 2; Max Power Dissipation: 250mW; Voltage Rating (DC): 200V; Features: Moisture Resistant; Series: RC; Construction: Rectangular; Length: 0.122inch; Width: 0.063inch; Height: 0.026inch; Depth: 1.6mm; Military Standard: Not; Lead Free: Lead Free; RoHS Compliant: Yes; ComponentLink1URL: https://datasheet.ciiva.com/2460/pyu-rc1206-51-rohs-l-4-2460123.pdf?src-supplier=Digi-Key; ComponentLink1Description: https://datasheet.ciiva.com/2460/pyu-rc1206-51-rohs-l-4-2460123.pdf?src-supplier=Digi-Key; ComponentLink2URL: https://datasheet.ciiva.com/2460/pyu-rc1206-51-rohs-l-4-2460124.pdf?src-supplier=Digi-Key; ComponentLink2Description: https://datasheet.ciiva.com/2460/pyu-rc1206-51-rohs-l-4-2460124.pdf?src-supplier=Digi-Key; ComponentLink3URL: https://datasheet.ciiva.com/2460/pyu-rc1206-51-rohs-l-4-2460125.pdf?src-supplier=Digi-Key; ComponentLink3Description: https://datasheet.ciiva.com/2460/pyu-rc1206-51-rohs-l-4-2460125.pdf?src-supplier=Digi-Key; ComponentLink4URL: https://datasheet.ciiva.com/17043/pyu-rc1206-51-rohs-l-4-17043735.pdf?src-supplier=Future+Electronics; ComponentLink4Description: https://datasheet.ciiva.com/17043/pyu-rc1206-51-rohs-l-4-17043735.pdf?src-supplier=Future+Electronics; Supplier Part Number 1: 311-2.40FRCT-ND
footprint R-1206
pins: 1, 2

## RC1206FR-072RL
designator R?, comment 2R0
Res Thick Film 1206 2 Ohm 1% 0.25W(1/4W) ±200ppm/C Epoxy SMD T/R; Manufacturer: Yageo; Manufacturer Part Number: RC1206FR-072RL; Resistance: 2R; Power Rating: 250mW; Voltage Rating: 200V; Temperature Coefficient: 200ppm/°C; Supplier 1: Digi-Key; RoHS: Yes; Category: Chip SMD Resistors; Stock 1: 248574; Pricing 1: 1=0/15000, 10=0/13200, 100=0/05090, 1000=0/02242, 2500=0/01936 (USD); Mount: Surface Mount; Case/Package: 1206; Case Code (Metric): 3216; Case Code (Imperial): 1206; Size Code: 1206; Min Operating Temperature: -55°C; Max Operating Temperature: 155°C; Package Quantity: 1; Tolerance: 1%; Packaging: Tape and Reel; Resistor Type: Thick Film; Number of Terminations: 2; Termination: SMD/SMT; Max Power Dissipation: 250mW; Voltage Rating (DC): 200V; Features: Moisture Resistant; Series: RC; Technology: THICK FILM; Construction: Rectangular; Length: 3.1mm; Width: 0.063inch; Height: 0.026inch; Depth: 1.6mm; Military Standard: Not; Lead Free: Lead Free; RoHS Compliant: Yes; ComponentLink1URL: https://datasheet.ciiva.com/11819/0900766b80c6630a-11819926.pdf?src-supplier=RSComponents; ComponentLink1Description: https://datasheet.ciiva.com/11819/0900766b80c6630a-11819926.pdf?src-supplier=RSComponents; ComponentLink2URL: https://datasheet.ciiva.com/26914/getdatasheetpartid-26019-26914572.pdf?src-supplier=Verical; ComponentLink2Description: https://datasheet.ciiva.com/26914/getdatasheetpartid-26019-26914572.pdf?src-supplier=Verical; ComponentLink3URL: https://datasheet.ciiva.com/2460/pyu-rc1206-51-rohs-l-4-2460085.pdf?src-supplier=Digi-Key; ComponentLink3Description: https://datasheet.ciiva.com/2460/pyu-rc1206-51-rohs-l-4-2460085.pdf?src-supplier=Digi-Key; ComponentLink4URL: https://datasheet.ciiva.com/2460/pyu-rc1206-51-rohs-l-4-2460086.pdf?src-supplier=Digi-Key; ComponentLink4Description: https://datasheet.ciiva.com/2460/pyu-rc1206-51-rohs-l-4-2460086.pdf?src-supplier=Digi-Key; ComponentLink5URL: https://datasheet.ciiva.com/2460/pyu-rc1206-51-rohs-l-4-2460084.pdf?src-supplier=Digi-Key; ComponentLink5Description: https://datasheet.ciiva.com/2460/pyu-rc1206-51-rohs-l-4-2460084.pdf?src-supplier=Digi-Key; ComponentLink6URL: https://datasheet.ciiva.com/16740/pyu-rc1206-51-rohs-l-4-16740869.pdf?src-supplier=Future+Electronics; ComponentLink6Description: https://datasheet.ciiva.com/16740/pyu-rc1206-51-rohs-l-4-16740869.pdf?src-supplier=Future+Electronics; Supplier Part Number 1: 311-2.00FRCT-ND
footprint R-1206
pins: 1, 2

## RC1206FR-073RL
designator R?, comment 3R00
Resistor;Resistance:3Rohm;Resistance Tolerance:± 1%;Resistor Element Material:Thick Film;Resistor Case Style:1206; Manufacturer: Yageo; Manufacturer Part Number: RC1206FR-073RL; Resistance: 3R; Temperature Coefficient: 200ppm/°C; Power Rating: 250mW; Voltage Rating: 200V; Supplier 1: Digi-Key; RoHS: Yes; Category: Chip SMD Resistors; Stock 1: 145985; Pricing 1: 1=0/15000, 10=0/13200, 100=0/05090, 1000=0/02242, 2500=0/01936 (USD); Mount: Surface Mount; Case/Package: 1206; Contact Plating: Tin,Matte; Case Code (Metric): 3216; Case Code (Imperial): 1206; Size Code: 1206; Min Operating Temperature: -55°C; Max Operating Temperature: 155°C; Tolerance: 1%; Resistor Type: Thick Film; Package Quantity: 1; Packaging: Tape and Reel; Number of Terminations: 2; Termination: SMD/SMT; Max Power Dissipation: 250mW; Voltage Rating (DC): 200V; Features: Moisture Resistant; Series: RC; Technology: THICK FILM; Length: 3.1mm; Width: 0.063inch; Height: 0.55mm; Depth: 1.6mm; Radiation Hardening: No; Lead Free: Lead Free; RoHS Compliant: Yes; ComponentLink1URL: https://datasheet.ciiva.com/11809/0900766b80c6630a-11809503.pdf?src-supplier=RSComponents; ComponentLink1Description: https://datasheet.ciiva.com/11809/0900766b80c6630a-11809503.pdf?src-supplier=RSComponents; ComponentLink2URL: https://datasheet.ciiva.com/2460/pyu-rc1206-51-rohs-l-4-2460705.pdf?src-supplier=Digi-Key; ComponentLink2Description: https://datasheet.ciiva.com/2460/pyu-rc1206-51-rohs-l-4-2460705.pdf?src-supplier=Digi-Key; ComponentLink3URL: https://datasheet.ciiva.com/2460/pyu-rc1206-51-rohs-l-4-2460706.pdf?src-supplier=Digi-Key; ComponentLink3Description: https://datasheet.ciiva.com/2460/pyu-rc1206-51-rohs-l-4-2460706.pdf?src-supplier=Digi-Key; ComponentLink4URL: https://datasheet.ciiva.com/2460/pyu-rc1206-51-rohs-l-4-2460707.pdf?src-supplier=Digi-Key; ComponentLink4Description: https://datasheet.ciiva.com/2460/pyu-rc1206-51-rohs-l-4-2460707.pdf?src-supplier=Digi-Key; ComponentLink5URL: https://datasheet.ciiva.com/17420/pyu-rc1206-51-rohs-l-4-17420124.pdf?src-supplier=Future+Electronics; ComponentLink5Description: https://datasheet.ciiva.com/17420/pyu-rc1206-51-rohs-l-4-17420124.pdf?src-supplier=Future+Electronics; Supplier Part Number 1: 311-3.00FRCT-ND
footprint R-1206
pins: 1, 2

## RES
designator R?, comment 1K
SMD Resistor
footprint R-0805
footprint R-1206
pins: 1, 2

## RSF100JB-73-3R9
designator R?, comment 3R9 1W
RES 3.9 OHM 1W 5% AXIAL; Manufacturer: Yageo; Manufacturer Part Number: RSF100JB-73-3R9; Resistance: 3.9R; Power Rating: 2W; Supplier 1: Digi-Key; RoHS: Yes; Category: Through-Hole Resistors; Stock 1: 5870; Pricing 1: 1=0/38000, 10=0/31700, 25=0/23080, 50=0/16740, 100=0/12410, 250=0/09520, 500=0/07500, 1000=0/05193, 5000=0/04328 (USD); Case/Package: Axial; Min Operating Temperature: -55°C; Max Operating Temperature: 235°C; Packaging: Bulk; Package Quantity: 100; Max Power Dissipation: 1W; Tolerance: 5%; Resistor Type: Metal Oxide; Number of Terminations: 2; Features: Flame Retardant Coating; Termination: Axial; Length: 0.453inch; Military Standard: Not; ComponentLink1URL: https://datasheet.ciiva.com/2715/yageo-lr-rsf-2013-2715037.pdf?src-supplier=Digi-Key; ComponentLink1Description: https://datasheet.ciiva.com/2715/yageo-lr-rsf-2013-2715037.pdf?src-supplier=Digi-Key; Supplier Part Number 1: 3.9W-1-ND
footprint RESISTOR-1W-STAND
pins: 1, 2

## RT0805FRE0775KL
designator R?, comment 75K
Thin Film Resistors - SMD 1/8W 75K ohm 1% 50ppm; Manufacturer: Yageo; Manufacturer Part Number: RT0805FRE0775KL; Resistance: 75kR; Power Rating: 125mW; Voltage Rating: 150V; Temperature Coefficient: 50ppm/°C; Supplier 1: Digi-Key; RoHS: Yes; Category: Chip SMD Resistors; Stock 1: 3524; Pricing 1: 1=0/10000, 10=0/08000, 100=0/03100, 1000=0/01362, 2500=0/01176 (USD); Case/Package: 0805; Case Code (Metric): 2012; Case Code (Imperial): 0805; Weight: 0.000194oz; Contact Plating: Tin,Matte; Min Operating Temperature: -55°C; Max Operating Temperature: 125°C; Tolerance: 1%; Package Quantity: 5000; Packaging: Tape and Reel; Resistor Type: Thin Film; Number of Terminations: 2; Termination: SMD/SMT; Max Power Dissipation: 125mW; Voltage Rating (DC): 150V; Series: RT; Construction: Rectangular; Length: 2mm; Width: 0.049inch; Height: 0.024inch; Depth: 1.25mm; Radiation Hardening: No; Military Standard: Not; Lead Free: Lead Free; RoHS Compliant: Yes; ComponentLink1URL: https://datasheet.ciiva.com/2561/pyu-rt-1-to-0-05-rohs-l-5-2561381.pdf?src-supplier=Digi-Key; ComponentLink1Description: https://datasheet.ciiva.com/2561/pyu-rt-1-to-0-05-rohs-l-5-2561381.pdf?src-supplier=Digi-Key; ComponentLink2URL: https://datasheet.ciiva.com/12811/pyu-rt-1-to-0-05-rohs-l-4-12811646.pdf?src-supplier=Mouser; ComponentLink2Description: https://datasheet.ciiva.com/12811/pyu-rt-1-to-0-05-rohs-l-4-12811646.pdf?src-supplier=Mouser; Supplier Part Number 1: 13-RT0805FRE0775KLCT-ND
footprint R-0805
pins: 1, 2

## RT1206FRE07150KL
designator R?, comment 150K
RES SMD 150K OHM 1% 1/4W 1206; Manufacturer: Yageo; Manufacturer Part Number: RT1206FRE07150KL; Resistance: 150kR; Temperature Coefficient: 50ppm/°C; Power Rating: 250mW; Voltage Rating: 200V; Supplier 1: Digi-Key; RoHS: Yes; Category: Chip SMD Resistors; Stock 1: 7954; Pricing 1: 1=0/14000, 10=0/12200, 100=0/04700, 1000=0/02070, 2500=0/01788 (USD); Mount: Surface Mount; Case/Package: 1206; Contact Plating: Tin,Matte; Case Code (Metric): 3216; Case Code (Imperial): 1206; Size Code: 1206; Min Operating Temperature: -55°C; Max Operating Temperature: 125°C; Tolerance: 1%; Resistor Type: Thin Film; Packaging: Tape and Reel; Package Quantity: 5000; Termination: SMD/SMT; Number of Terminations: 2; Max Power Dissipation: 250mW; Voltage Rating (DC): 200V; Series: RT; Technology: THIN FILM; Construction: Rectangular; Length: 3.1mm; Width: 0.063inch; Height: 0.026inch; Depth: 1.6mm; Radiation Hardening: No; Military Standard: Not; Lead Free: Lead Free; RoHS Compliant: Yes; ComponentLink1URL: https://datasheet.ciiva.com/11809/0900766b8079c86f-11809440.pdf?src-supplier=RSComponents; ComponentLink1Description: https://datasheet.ciiva.com/11809/0900766b8079c86f-11809440.pdf?src-supplier=RSComponents; ComponentLink2URL: https://datasheet.ciiva.com/2566/pyu-rt-1-to-0-05-rohs-l-5-2566511.pdf?src-supplier=Digi-Key; ComponentLink2Description: https://datasheet.ciiva.com/2566/pyu-rt-1-to-0-05-rohs-l-5-2566511.pdf?src-supplier=Digi-Key; ComponentLink3URL: https://datasheet.ciiva.com/12703/pyu-rt-1-to-0-05-rohs-l-4-12703902.pdf?src-supplier=Mouser; ComponentLink3Description: https://datasheet.ciiva.com/12703/pyu-rt-1-to-0-05-rohs-l-4-12703902.pdf?src-supplier=Mouser; ComponentLink4URL: https://datasheet.ciiva.com/8887/pyu-rt-1-to-0-05-rohs-l-4-8887326.pdf?src-supplier=Avnet; ComponentLink4Description: https://datasheet.ciiva.com/8887/pyu-rt-1-to-0-05-rohs-l-4-8887326.pdf?src-supplier=Avnet; ComponentLink5URL: https://datasheet.ciiva.com/8887/pyu-rt-1-to-0-05-rohs-l-4-8887400.pdf?src-supplier=Avnet; ComponentLink5Description: https://datasheet.ciiva.com/8887/pyu-rt-1-to-0-05-rohs-l-4-8887400.pdf?src-supplier=Avnet; Supplier Part Number 1: YAG5984CT-ND
footprint R-1206
pins: 1, 2

## SF28GTA
designator D?, comment SF28
DIODE GEN PURP 600V 2A DO15; Manufacturer: SMC; Manufacturer Part Number: SF28GTA; Reverse Recovery Time: 35ns; Supplier 1: Digi-Key; RoHS: No; Category: Rectifier Diodes; Stock 1: 29447; Pricing 1: 1=0/29000, 10=0/23900, 100=0/12690, 500=0/08348, 1000=0/05676 (USD); Mount: Through Hole; Case/Package: DO-15; Packaging: Tape and Reel; Max Reverse Voltage (DC): 600V; Average Rectified Current: 2A; ComponentLink1URL: http://www.smc-diodes.com/propdf/SF21G-SF28G%20N1641%20REV.C.pdf?src-supplier=Digi-Key; ComponentLink1Description: http://www.smc-diodes.com/propdf/SF21G-SF28G%20N1641%20REV.C.pdf?src-supplier=Digi-Key; Supplier Part Number 1: 1655-1582-1-ND
footprint DIOD-STAND
pins: A, K

## SMM0207
designator R?, comment 22R
RES SMD 22 OHM 1W MELF; Manufacturer: Vishay; Manufacturer Part Number: SMM02070C2209FBP00; Tolerance: 1%; Temperature Coefficient: 50ppm/°C; Voltage Rating: 350V; Supplier 1: Digi-Key; RoHS: Yes; Category: Chip SMD Resistors; Stock 1: 2710; Pricing 1: 1=0/48000, 10=0/36600, 100=0/15370 (USD); Case/Package: Conformal; Contact Plating: Tin; Weight: 0.002716oz; Min Operating Temperature: -55°C; Max Operating Temperature: 155°C; Resistance: 22R; Power Rating: 1W; Resistor Type: Thin Film; Packaging: Tape and Reel; Package Quantity: 1500; Number of Terminations: 2; Max Power Dissipation: 1W; Features: Automotive AEC-Q200; Series: SMM0207; Construction: Cylindrical; Diameter: 2.2mm; Length: 5.8mm; Width: 2.2mm; Radiation Hardening: No; Military Standard: Not; Lead Free: Lead Free; RoHS Compliant: Yes; ComponentLink1URL: https://datasheet.ciiva.com/8897/smm0207-8897061.pdf?src-supplier=Avnet; ComponentLink1Description: https://datasheet.ciiva.com/8897/smm0207-8897061.pdf?src-supplier=Avnet; ComponentLink2URL: https://datasheet.ciiva.com/16879/smm0207-16879912.pdf?src-supplier=Avnet+Europe; ComponentLink2Description: https://datasheet.ciiva.com/16879/smm0207-16879912.pdf?src-supplier=Avnet+Europe; Supplier Part Number 1: 749-1151-1-ND
footprint SMM0207
pins: 1, 2

## STM8S003_SSOP20
designator U?, comment STM8S003  (value not drawn)
MCU, STM8 MCU 8-bit, 8KB FLASH, 1KB SRAM; DESC: 128b EEPROM, 10-bit ADC, 3timers, UART, SPI, I2C; MANF: ST; MANF_P#: STM8S003F3P6; PARAM2: 2.95~5.5VCC, 16MHz, 10-bit ADC; PARAM: 8KB FLASH, 1KB SRAM, -40~85oC; PRICE: 0.3$; VALUE: STM8S003
footprint SOG65_20 (PW TSSOP (TI), MO-153-AC (JEDEC), 20Lead, pitch: 0.65mm, 6.5x4.4x1.2mm)
pins: 1 PD4_HS/BEEP /TIM2_CH1/UART1_CK (io), 2 PD5_HS/AIN5/UART1_TX (io), 3 PD6_HS/AIN6/UART1_RX (io), 4 NRST (io), 5 PA1/OSCIN (io), 6 PA2/OSCOUT (io), 7 VSS (power), 8 VCAP (power), 9 VDD (power), 10 PA3_HS/SPI_NSS/TIM2_CH3 (io), 11 PB5_T/TIM1_BKIN/I2C_SDA (io), 12 PB4_T/ADC_ETR/I2C_SCL (io), 13 PC3_HS/TIM1_CH1N/TLI/TIM1_CH3/ (io), 14 PC4_HS/TIM1_CH4/CLK_CCO/AIN2/TIM1_CH2N (io), 15 PC5_HS/SPI_SCK/TIM2_CH1 (io), 16 PC6_HS/SPI_MOSI/TIM1_CH1 (io), 17 PC7_HS/SPI_MISO/TIM1_CH2 (io), 18 PD1_HS/SWIM (io), 19 PD2_HS/AIN3/TIM2_CH3 (io), 20 PD3_HS/AIN4/TIM2_CH2/ADC_ETR (io)
text: CHILA

## TPS2115APWR
designator U?, comment TPS2115A
TEXAS INSTRUMENTS - TPS2115APWR - POWER LOAD SW, HIGH SIDE, 5.5V, TSSOP-8; Number of Outputs: 1; Max Output Current: 1.25A; Number of Inputs: 2; Min Input Voltage: 2.8V; Turn-On Delay Time: 1ms; Operating Supply Current: 55uA; Output Voltage: 6V; Max Power Dissipation: 387mW; Turn-Off Delay Time: 5ms; On-State Resistance: 84mR; Supplier 1: Digi-Key; Manufacturer: Texas Instruments; Manufacturer Part Number: TPS2115APWR; RoHS: Yes; Category: Voltage Regulators - Switching; Stock 1: 14651; Pricing 1: 1=2/48000, 10=2/22500, 25=2/09880, 100=1/78820, 250=1/67904, 500=1/46916, 1000=1/32264 (USD); Case/Package: TSSOP; Number of Pins: 8; Weight: 0.001376oz; Min Operating Temperature: -40°C; Max Operating Temperature: 85°C; Package Quantity: 2000; Packaging: Tape and Reel; Output Current: 1.25A; Max Input Voltage: 5.5V; Current - Output 2: 1.25A; Operating Supply Voltage: 5.5V; Series: TPS2115A; Radiation Hardening: No; Lead Free: Lead Free; RoHS Compliant: Yes; REACH SVHC: No SVHC; ComponentLink1URL: https://datasheet.ciiva.com/15109/getdatasheetpartid-237877-15109267.pdf?src-supplier=Verical; ComponentLink1Description: https://datasheet.ciiva.com/15109/getdatasheetpartid-237877-15109267.pdf?src-supplier=Verical; ComponentLink2URL: https://datasheet.ciiva.com/1960/tps2114a-1960786.pdf?src-supplier=Digi-Key; ComponentLink2Description: https://datasheet.ciiva.com/1960/tps2114a-1960786.pdf?src-supplier=Digi-Key; ComponentLink3URL: https://datasheet.ciiva.com/1960/tps2114a-1960787.pdf?src-supplier=Digi-Key; ComponentLink3Description: https://datasheet.ciiva.com/1960/tps2114a-1960787.pdf?src-supplier=Digi-Key; ComponentLink4URL: https://datasheet.ciiva.com/1960/tps2114a-1960788.pdf?src-supplier=Digi-Key; ComponentLink4Description: https://datasheet.ciiva.com/1960/tps2114a-1960788.pdf?src-supplier=Digi-Key; ComponentLink5URL: https://datasheet.ciiva.com/23603/1862467-23603429.pdf?src-supplier=Newark; ComponentLink5Description: https://datasheet.ciiva.com/23603/1862467-23603429.pdf?src-supplier=Newark; ComponentLink6URL: https://datasheet.ciiva.com/3232/tps2115a-3232456.pdf?src-supplier=Avnet; ComponentLink6Description: https://datasheet.ciiva.com/3232/tps2115a-3232456.pdf?src-supplier=Avnet; Supplier Part Number 1: 296-16940-1-ND
footprint TSSOP-8
pins: 1 STAT, 2 D0, 3 D1, 4 ILIM, 5 GND, 6 IN2, 7 OUT, 8 IN1